# EAGLE library part PMOD-2X6 (library prj-hdmi)
2x6 PMOD connector
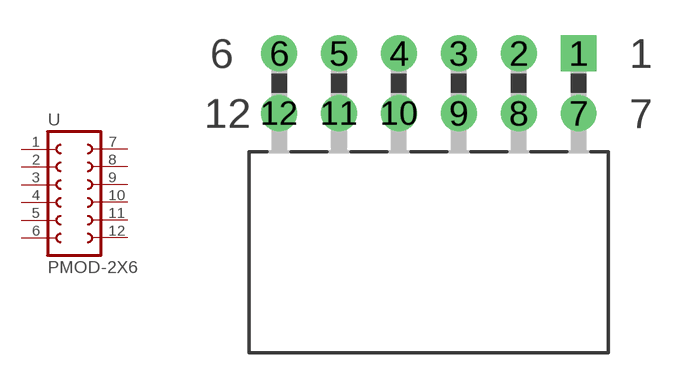
[diagram p11: symbol with the pads of PMOD-2X6; footprint PMOD-2X6]

Designator prefix -

## PMOD-2X6  [PMOD-2X6]
1  1  pas
2  2  pas
3  3  pas
4  4  pas
5  5  pas
6  6  pas
7  7  pas
8  8  pas
9  9  pas
10  10  pas
11  11  pas
12  12  pas

## Footprint PMOD-2X6 (pad centres in mm)
drill 1.016 square: 1 6.35,1.27
drill 1.016: 2 3.81,1.27; 3 1.27,1.27; 4 -1.27,1.27; 5 -3.81,1.27; 6 -6.35,1.27; 7 6.35,-1.27; 8 3.81,-1.27; 9 1.27,-1.27; 10 -1.27,-1.27; 11 -3.81,-1.27; 12 -6.35,-1.27